# Altium footprint library PCB1.PcbLib: 16 footprints
Each footprint in its own frame and in the unit in brackets; x right, y up, seen from the top. Pads: shape width x height; smd on the part's side, far side on the other; paste and mask are expansions set on the pad; w line width, h text height; cw(c..) or ccw(c..) is an arc to the next point about the centre after c.
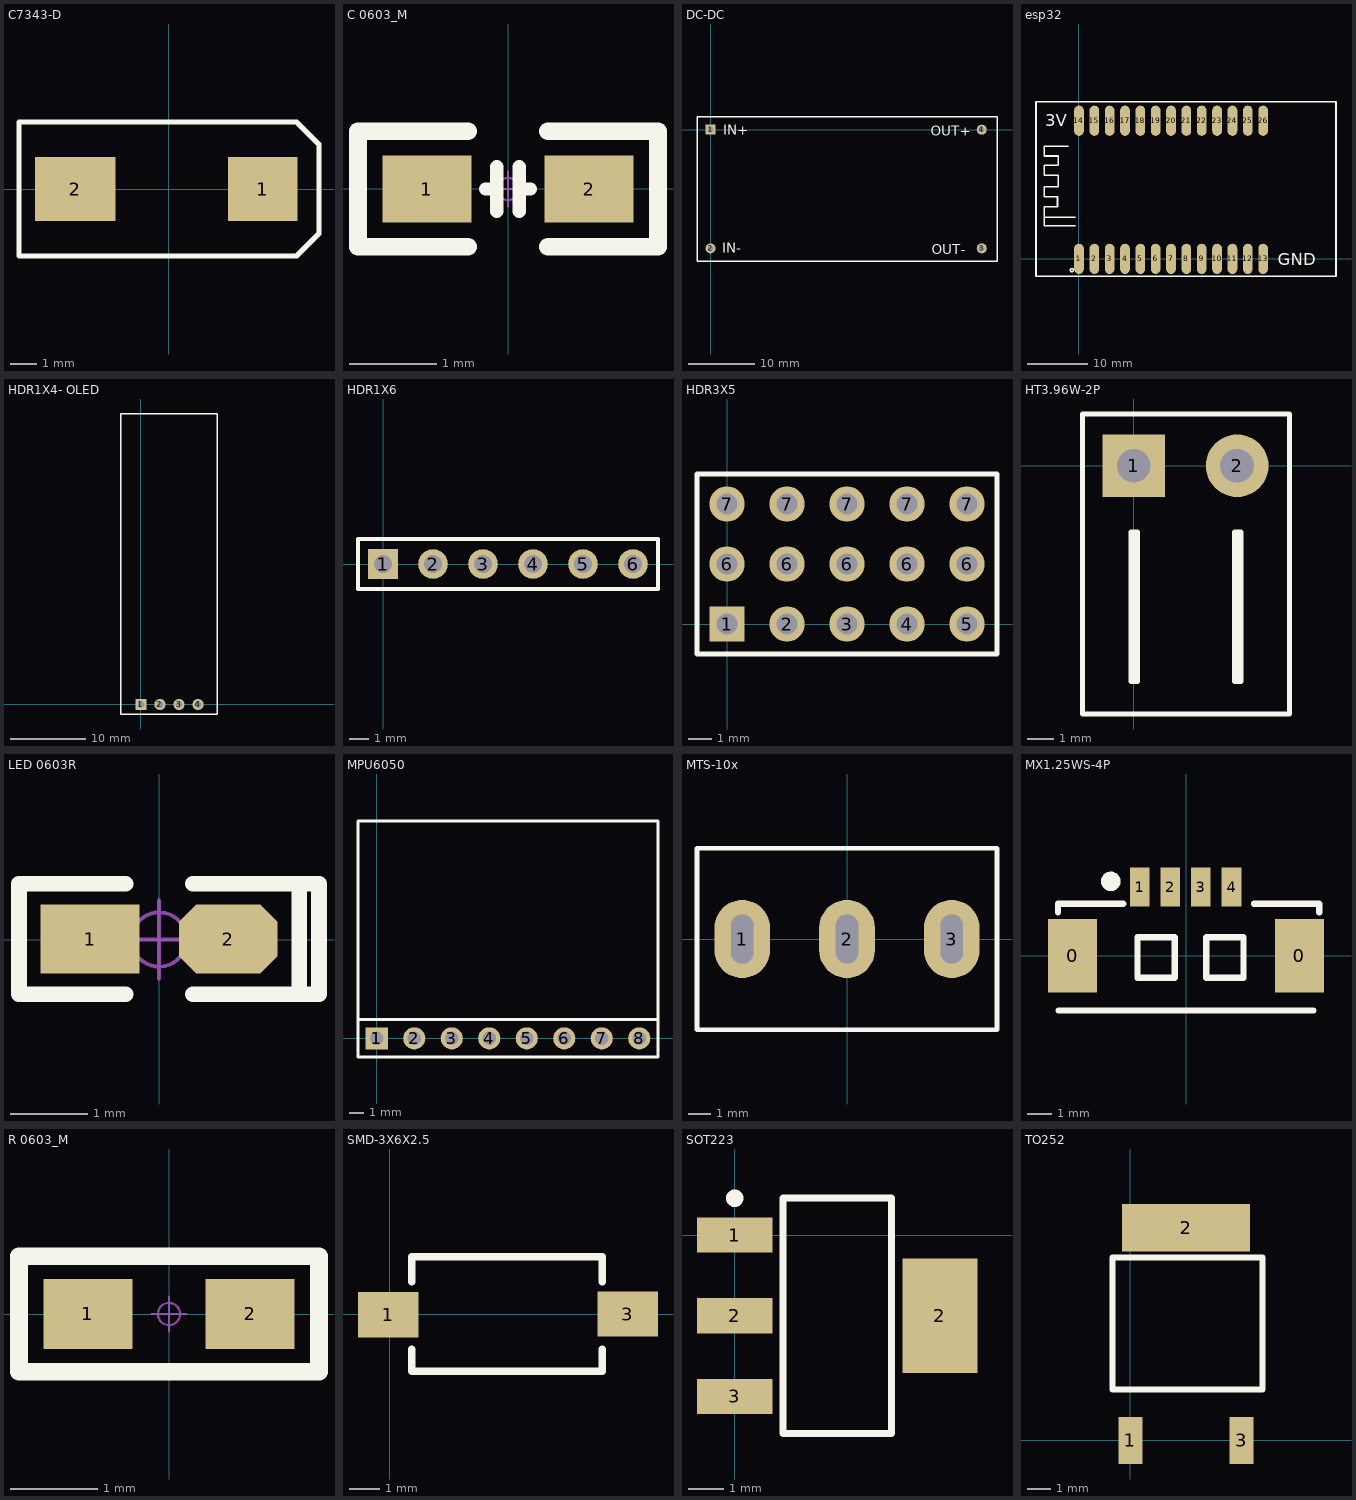
[diagram p0: the footprints below, top view; thin cyan lines are the x and y axes]

## C7343-D [mm]
pads (2):
  rect 2.6x2.4 smd: 1(3.5,0)
  rect 3x2.4 smd: 2(-3.5,0)
Top Overlay:
  lines w0.2: -5.6,-2.5 -5.6,0 -5.6,2.5 4.767,2.5 5.6,1.667 5.6,-1.667 4.767,-2.5 -5.6,-2.5
3D body "User Library-CAP_TANT_7343-31.STEP": height 3.1, standoff 0, extent -3.8,-2.3 3.8,2.3

## C 0603_M [mil] "无极性贴片电容"
height 532.68
pads (2):
  rect 40x30 smd: 1(-36.5,0) 2(36.5,0)
Top Overlay:
  lines w6: -10,0 -5,0 ; -5,-10 -5,10 ; 5,-10 5,10 ; 5,0 10,0
  lines w8: -18,-26 -67.5,-26 -67.5,26 -18,26 ; 18,-26 67.5,-26 67.5,26 18,26
Mechanical 15:
  circle w1: c0,0 r5
  lines w1: -7.87,0 7.87,0 ; 0,-7.87 0,7.87
3D body "C 0603.STEP": height 31.89, standoff -0.39, extent -31.5,-16.14 31.5,16.14

## DC-DC [mm] "Connector; Header; 6 Position"
pads (4):
  rect 1.5x1.5 hole 0.9: 1(0,0)
  round 1.5 hole 0.9: 2(0,-17.78) 3(40.64,-17.78) 4(40.64,0)
Top Overlay:
  lines w0.2: -2.032,-19.685 42.926,-19.685 42.926,1.905 -2.032,1.905 -2.032,-19.685
  text "OUT+" at 33.02,-0.889 h1.5
  text "OUT-" at 33.147,-18.669 h1.5
  text "IN-" at 1.778,-18.415 h1.5
  text "IN+" at 1.905,-0.762 h1.5

## esp32 [mm]
pads (26):
  oval 1.6x5 smd: 1(0,0) 2(2.54,0) 3(5.08,0) 4(7.62,0) 5(10.16,0) 6(12.7,0) 7(15.24,0) 8(17.78,0) 9(20.32,0) 10(22.86,0) 11(25.4,0) 12(27.94,0) 13(30.48,0) 14(0,22.86) 15(2.54,22.86) 16(5.08,22.86) 17(7.62,22.86) 18(10.16,22.86) 19(12.7,22.86) 20(15.24,22.86) 21(17.78,22.86) 22(20.32,22.86) 23(22.86,22.86) 24(25.4,22.86) 25(27.94,22.86) 26(30.48,22.86)
Top Overlay:
  circle w0.254: c-1.168,-1.88 r0.259
  lines w0.254: -1.778,18.669 -5.715,18.669 -5.715,17.018 -3.429,17.018 -3.429,15.494 -5.715,15.494 -5.715,13.843 -3.683,13.843 -3.429,13.843 -3.429,11.938 -5.715,11.938 -5.715,10.287 -3.556,10.287 -3.556,8.636 -5.715,8.636 -5.715,6.858 ; -0.635,5.461 -5.715,5.461 -5.715,6.858 ; -0.635,6.858 -5.715,6.858 ; 42.545,-2.921 -7.112,-2.921 -7.112,25.781 -7.112,26.035 42.545,26.035 42.545,-2.794
  text "GND" at 32.879,-1.03 h2
  text "3V" at -5.602,21.957 h2
3D body "61000411921.x_t": height 7.55, standoff 0.05, extent 21.34,-2.025 32,2.025
3D body "61000411921.x_t": height 7.55, standoff 0.05, extent 18.8,-2.025 29.46,2.025
3D body "61000411921.x_t": height 7.55, standoff 0.05, extent 8.67,-2.025 19.33,2.025
3D body "61000411921.x_t": height 7.55, standoff 0.05, extent 8.67,20.835 19.33,24.885
3D body "61000411921.x_t": height 7.55, standoff 0.05, extent -1.53,20.835 9.13,24.885
3D body "61000411921.x_t": height 7.55, standoff 0.05, extent 18.8,20.835 29.46,24.885
3D body "61000411921.x_t": height 7.55, standoff 0.05, extent 21.34,20.835 32,24.885
3D body "61000411921.x_t": height 7.55, standoff 0.05, extent -1.551,-2.054 9.109,1.996
3D body: height 0, standoff 0, extent -5.716,5.46 -0.634,18.67
3D body: height 0, standoff 0, extent -7.113,-2.922 42.546,26.036
3D body: height 0, standoff 0, extent -1.427,-2.138 -0.91,-1.621
3D body: height 0, standoff 0, extent -5.716,5.46 -0.634,18.67
3D body: height 0, standoff 0, extent -7.113,-2.922 42.546,26.036
3D body: height 0, standoff 0, extent -5.716,5.46 -0.634,18.67
3D body: height 0, standoff 0, extent -1.427,-2.138 -0.91,-1.621

## HDR1X4- OLED [mm] "Connector; Header; 6 Position"
pads (4):
  rect 1.5x1.5 hole 0.9: 1(0,0)
  round 1.5 hole 0.9: 2(2.54,0) 3(5.08,0) 4(7.62,0)
Top Overlay:
  lines w0.2: -2.667,-1.27 10.16,-1.27 10.16,38.73 -2.667,38.73 -2.667,-1.27

## HDR1X6 [mm] "Connector; Header; 6 Position"
pads (6):
  rect 1.5x1.5 hole 0.9: 1(0,0)
  round 1.5 hole 0.9: 2(2.54,0) 3(5.08,0) 4(7.62,0) 5(10.16,0) 6(12.7,0)
Top Overlay:
  lines w0.2: -1.27,-1.27 13.97,-1.27 13.97,1.27 -1.27,1.27 -1.27,-1.27

## HDR3X5 [mm] "Connector; Header; 6 Position"
pads (15):
  rect 1.5x1.5 hole 0.9: 1(0,0)
  round 1.5 hole 0.9: 2(2.54,0) 3(5.08,0) 4(7.62,0) 5(10.16,0) 6(0,2.54) 6(2.54,2.54) 6(5.08,2.54) 6(7.62,2.54) 6(10.16,2.54) 7(0,5.08) 7(2.54,5.08) 7(5.08,5.08) 7(7.62,5.08) 7(10.16,5.08)
Top Overlay:
  lines w0.2: -1.27,-1.27 -1.27,1.27 -1.27,6.35 11.43,6.35 11.43,-1.27 -1.27,-1.27

## HT3.96W-2P [mm]
pads (2):
  rect 2.4x2.4 hole 1.3: 1(0,0)
  round 2.4 hole 1.3: 2(3.96,0)
Top Overlay:
  lines w0.203: 0.02,-8.255 0.02,-2.54 ; 3.98,-8.255 3.98,-2.54 ; -1.96,-9.5 -1.96,1.98 2,1.98 5.96,1.98 5.96,-9.5 2,-9.5 -1.96,-9.5 ; -0.107,-8.255 -0.107,-2.54 0.147,-2.54 0.147,-8.255 -0.107,-8.255 ; 3.853,-8.255 4.107,-8.255 4.107,-2.54 3.853,-2.54 3.853,-8.255
3D body "HT3.96-WI.STEP": height 7.45, standoff -3.2, extent -2.032,-9.492 1.968,0.508
3D body "HT3.96-WI.STEP": height 7.45, standoff -3.2, extent 1.928,-9.492 5.928,0.508

## LED 0603R [mil] "红色0603LED"
height 532.68
pads (2):
  rect 50x35 smd: 1(-35,0.26)
  oct 50x35 smd: 2(35,0.26)
Top Overlay:
  lines w8: -17,-27.74 -71,-27.74 -71,-25.74 -71,28.26 -70,28.26 -17,28.26 ; 17,-27.74 70,-27.74 ; 17,28.26 71,28.26 81,28.26 81,-27.74 71,-27.74 71,26.26
Mechanical 15:
  circle w1.97: c0,0 r13.78
  lines w1.97: -19.68,0 19.69,0 ; 0,-19.68 0,19.69
3D body "LED 0603-R.STEP": height 18.34, standoff -0.16, extent -31.49,-15.78 31.5,15.79
3D body "LED 0603玻璃罩.": height 23.82, standoff 8.07, extent -23.58,-15.79 23.58,15.79

## MPU6050 [mm] "Connector; Header; 6 Position"
pads (8):
  rect 1.5x1.5 hole 0.9: 1(0,0)
  round 1.5 hole 0.9: 2(2.54,0) 3(5.08,0) 4(7.62,0) 5(10.16,0) 6(12.7,0) 7(15.24,0) 8(17.78,0)
Top Overlay:
  lines w0.2: -1.27,-1.27 -1.27,14.73 19.05,14.73 19.05,-1.27 ; -1.27,-1.27 19.05,-1.27 ; -1.27,-1.27 -1.27,1.27 13.97,1.27 19.05,1.27 19.05,0 19.05,-1.27

## MTS-10x [mm] "MTS10系列3脚扭子开关"
pads (3):
  oval 2.5x3.5 hole 1 slot 2.2 at 90 deg unplated: 1(-4.7,0) 2(0,0) 3(4.7,0)
Top Overlay:
  lines w0.203: -6.731,-4.064 6.731,-4.064 6.731,4.064 -6.731,4.064 -6.731,-4.064
3D body "MTS-102.STEP": height 30.47, standoff -2.95, extent -6.6,-3.95 6.6,3.95

## MX1.25WS-4P [mm]
pads (6):
  rect 2x3 smd: 0(-4.632,0) 0(4.632,0)
  rect 0.8x1.6 smd: 1(-1.889,2.811) 2(-0.639,2.811) 3(0.611,2.811) 4(1.861,2.811)
Top Overlay:
  circle w0.4: c-3.074,3.048 r0.2
  lines w0.254: -5.233,1.778 -5.233,2.134 -2.566,2.134 ; -5.206,-2.228 5.201,-2.228 ; 2.782,2.134 5.449,2.134 5.449,1.778 ; -1.982,-0.889 -0.458,-0.889 -0.458,0.762 -1.982,0.762 -1.982,-0.889 ; 0.826,-0.889 0.826,0.762 2.35,0.762 2.35,-0.889 0.826,-0.889
3D body "MX 1.25-WS-4P.STEP": height 3.4, standoff 0, extent -5.146,-1.96 5.004,3.23

## R 0603_M [mil] "1/10W贴片电阻"
height 532.68
pads (2):
  rect 40x31.5 smd: 1(-36.5,0) 2(36.5,0)
Top Overlay:
  lines w8: -67.5,-26 67.5,-26 67.5,26 -67.5,26 -67.5,-26
Mechanical 15:
  circle w1: c0,0 r5
  lines w1: -7.88,0 7.87,0 ; 0,-7.87 0,7.87
3D body "R 0603.STEP": height 15.79, standoff -0.13, extent -31.5,-15.75 31.5,15.75

## SMD-3X6X2.5 [mm]
pads (2):
  rect 2x1.5 smd: 1(-0.059,-0.02) 3(7.874,0)
Top Overlay:
  lines w0.254: 0.725,-1.168 0.725,-1.9 7.025,-1.9 7.025,-1.168 ; 0.725,1.067 0.725,1.9 7.025,1.9 7.025,1.067
3D body "SMD-3X6X2.5.STEP": height 2.59, standoff -0.03, extent -0.19,-1.778 7.81,1.722

## SOT223 [mm]
pads (4):
  rect 2.15x1 smd: 1(0,0) 2(0,-2.3) 3(0,-4.6)
  rect 2.15x3.25 smd: 2(5.85,-2.3)
Top Overlay:
  circle w0.25: c0,1.05 r0.125
  lines w0.2: 1.375,-5.65 4.475,-5.65 4.475,1.05 1.375,1.05 1.375,-5.65
3D body "CircuitWorks-SOT-223.STEP": height 1.7, standoff 0.02, extent -0.559,-5.536 6.401,0.964

## TO252 [mm]
pads (3):
  rect 1x2 smd: 1(0,0) 3(4.7,0)
  rect 5.4x2 smd: 2(2.35,9)
Top Overlay:
  lines w0.254: -0.762,2.159 5.588,2.159 5.588,7.747 -0.762,7.747 -0.762,2.159
3D body "CircuitWorks-TO-252.STEP": height 2.4, standoff 0.1, extent -0.877,-0.393 5.703,9.307